# EAGLE library part SOT6_GENERIC (library Generic footprints)
DBV: SOT-23-6 http://www.ricoh.com/LSI/product_power/pkg/sot-23-6.pdf 11/24/13 Matt Straughn
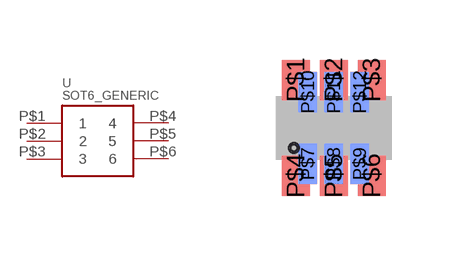
[diagram p1: symbol with the pads of DBV; footprint DBV]

Designator prefix -

## SOT6_GENERIC  [DBV]
P$1  1
P$2  2
P$3  3
P$4  4
P$5  5
P$6  6

## Footprint DBV (pad centres in mm)
Top Layer: DBV: SOT-23-6 http://www.ricoh.com/LSI/product_power/pkg/sot-23-6.pdf 11/17/13 Matt Straughn Bottom Layer: DCK: SC-70 http://cds.linear.com/docs/en/packaging/SOT_6_05-08-1638.pdf 11/17/13 Matt Straughn
smd 0.7 x 1: P$1 -0.95,1.2; P$2 0,1.2; P$3 0.95,1.2; P$4 -0.95,-1.2; P$5 0,-1.2; P$6 0.95,-1.2
smd 0.47 x 1 bottom: P$7 -0.65,-0.9; P$8 0,-0.9; P$9 0.65,-0.9; P$10 -0.65,0.9; P$11 0,0.9; P$12 0.65,0.9